# Altium integrated library Microchip Microcontroller 8-Bit PIC12.IntLib: 221 symbols (part 1 of 6)
Pins are listed as number, name and electrical type; pins without a type are passive.

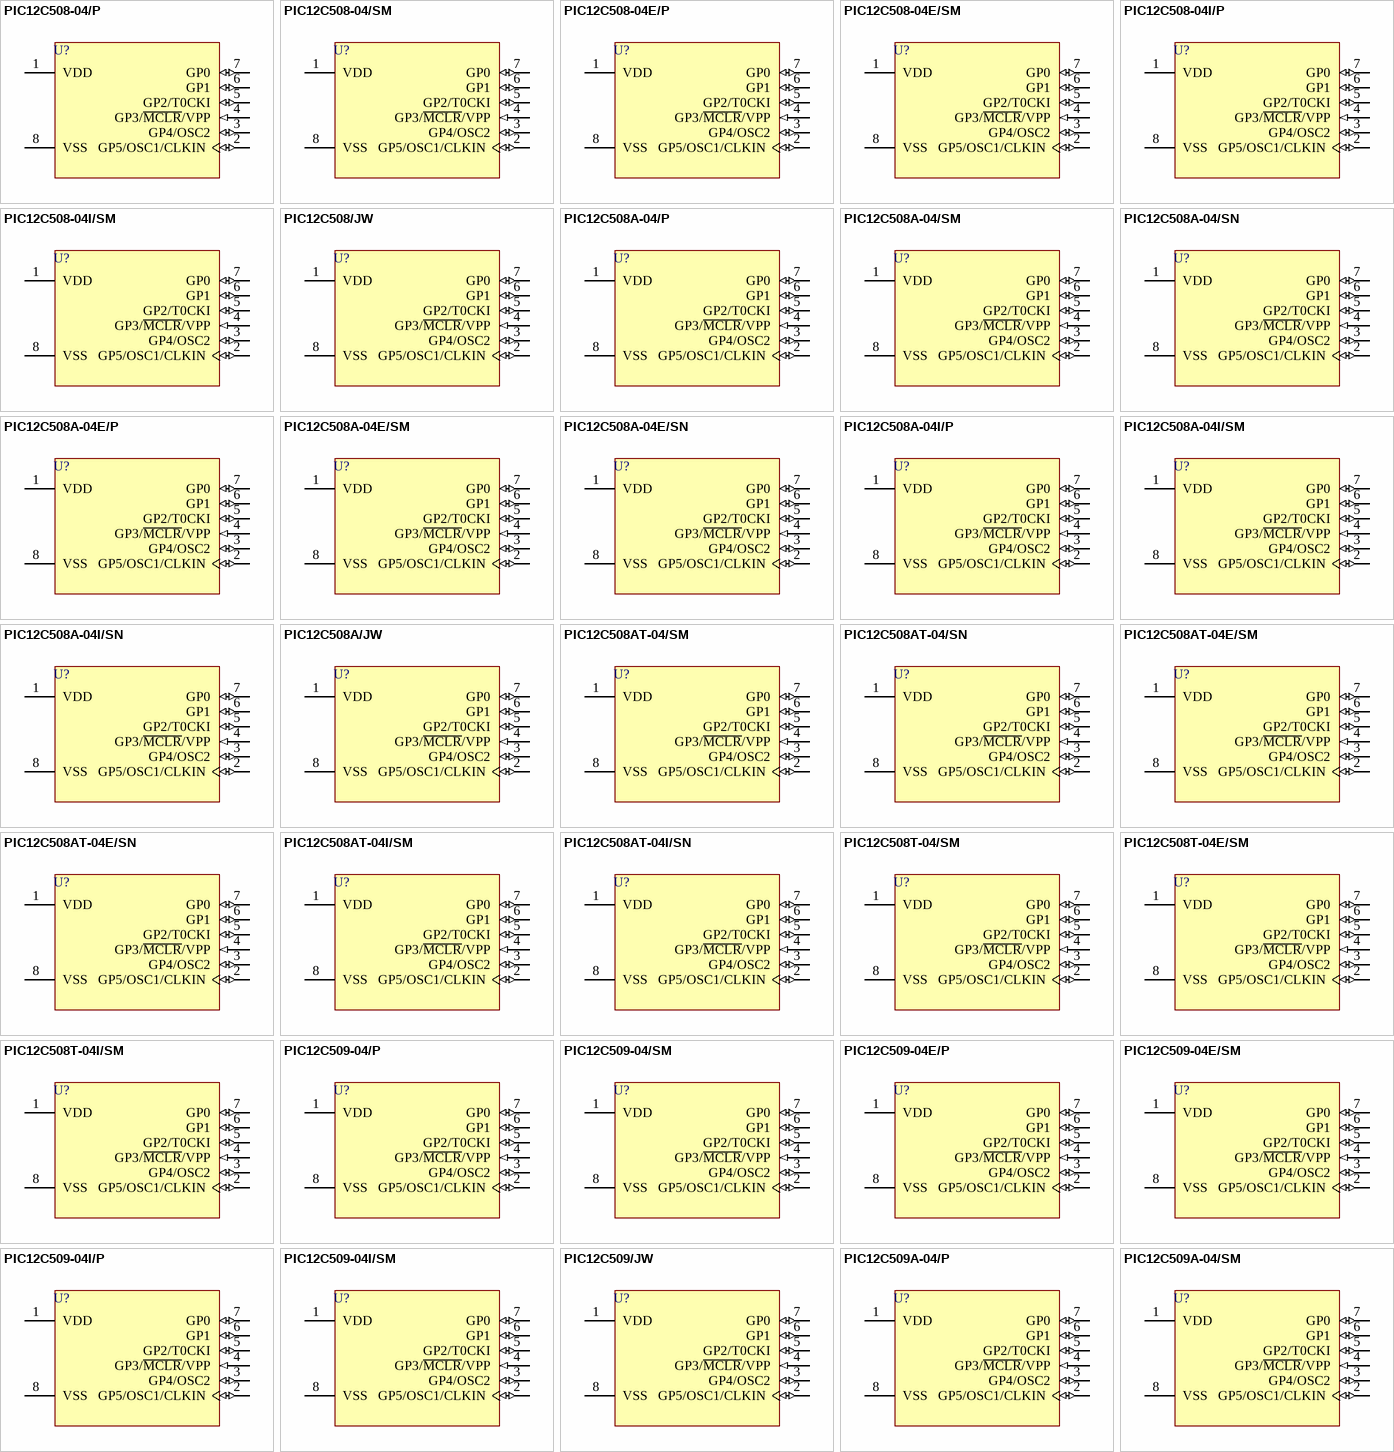
[diagram p0: symbols PIC12C508-04/P to PIC12C509A-04/SM]

## PIC12C508-04/P
designator U?
8-Bit CMOS Microcontroller, 8-Pin PDIP, 4 MHz, 2.5 to 5.5V Supply Range, Commercial Temperature; Note: If changing from PIC12C50X to either PIC12C50XA or PIC12CR50XA, verify oscillator characteristics in your application.; Note: Not recommended for new designs. Consider PIC12C508A instead.; Published: 11-Oct-2004; DatasheetVersion: DS40139E_1999; PackageVersion: Oct-2005; PackageReference: PDIP300-8; Publisher: Altium Limited; PackageDescription: DIP, Plastic; 8 Leads; Row Spacing 7.62 mm; Pitch 2.54 mm; Code_JEDEC: MS-001; ComponentLink1Description: Manufacturer Link; ComponentLink1URL: http://www.microchip.com; ComponentLink2Description: Datasheet; ComponentLink2URL: http://ww1.microchip.com/downloads/en/DeviceDoc/40139e.pdf; ComponentLink3Description: Packaging Specification; ComponentLink3URL: http://ww1.microchip.com/downloads/en/PackagingSpec/00049AD.pdf
footprint PDIP300-8 (DIP, Plastic; 8 Leads; Row Spacing 7.62 mm; Pitch 2.54 mm)
pins: 1 VDD (power), 2 GP5/OSC1/CLKIN (io), 3 GP4/OSC2 (io), 4 GP3/~{MCLR}/VPP (in), 5 GP2/T0CKI (io), 6 GP1 (io), 7 GP0 (io), 8 VSS (power)

## PIC12C508-04/SM
designator U?
8-Bit CMOS Microcontroller, 8-Pin SOIC 208mil, 4 MHz, 2.5 to 5.5V Supply Range, Commercial Temperature; Note: If changing from PIC12C50X to either PIC12C50XA or PIC12CR50XA, verify oscillator characteristics in your application.; Note: Not recommended for new designs. Consider PIC12C508A instead.; Published: 11-Oct-2004; LatestRevisionDate: 13-Apr-2006; LatestRevisionNote: IPC-7351 Footprint Added.; DatasheetVersion: DS40139E_1999; PackageVersion: 2003; PackageReference: SOIC208-8; Publisher: Altium Limited; PackageDescription: 8-Pin Plastic Medium Body Small Outline Package 1.27 mm Pitch; ComponentLink1Description: Manufacturer Link; ComponentLink1URL: http://www.microchip.com; ComponentLink2Description: Datasheet; ComponentLink2URL: http://ww1.microchip.com/downloads/en/DeviceDoc/40139e.pdf; ComponentLink3Description: Packaging Specification; ComponentLink3URL: http://ww1.microchip.com/downloads/en/PackagingSpec/00049AD.pdf
footprint SOIC208-8_N (SOP, 8-Leads, Body 5.2x5.2mm, Pitch 1.27mm, IPC Medium Density)
footprint SOIC208-8_L (SOP, 8-Leads, Body 5.2x5.2mm, Pitch 1.27mm, IPC High Density)
footprint SOIC208-8_M (SOP, 8-Leads, Body 5.2x5.2mm, Pitch 1.27mm, IPC Low Density)
3D model SOIC208-8 (8-Pin Plastic Medium Body Small Outline Package 1.27 mm Pitch)
pins: 1 VDD (power), 2 GP5/OSC1/CLKIN (io), 3 GP4/OSC2 (io), 4 GP3/~{MCLR}/VPP (in), 5 GP2/T0CKI (io), 6 GP1 (io), 7 GP0 (io), 8 VSS (power)

## PIC12C508-04E/P
designator U?
8-Bit CMOS Microcontroller, 8-Pin PDIP, 4 MHz, 2.5 to 5.5V Supply Range, Extended Temperature; Note: If changing from PIC12C50X to either PIC12C50XA or PIC12CR50XA, verify oscillator characteristics in your application.; Note: Not recommended for new designs. Consider PIC12C508A instead.; Published: 11-Oct-2004; DatasheetVersion: DS40139E_1999; PackageVersion: Oct-2005; PackageReference: PDIP300-8; Publisher: Altium Limited; PackageDescription: DIP, Plastic; 8 Leads; Row Spacing 7.62 mm; Pitch 2.54 mm; Code_JEDEC: MS-001; ComponentLink1Description: Manufacturer Link; ComponentLink1URL: http://www.microchip.com; ComponentLink2Description: Datasheet; ComponentLink2URL: http://ww1.microchip.com/downloads/en/DeviceDoc/40139e.pdf; ComponentLink3Description: Packaging Specification; ComponentLink3URL: http://ww1.microchip.com/downloads/en/PackagingSpec/00049AD.pdf
footprint PDIP300-8 (DIP, Plastic; 8 Leads; Row Spacing 7.62 mm; Pitch 2.54 mm)
pins: 1 VDD (power), 2 GP5/OSC1/CLKIN (io), 3 GP4/OSC2 (io), 4 GP3/~{MCLR}/VPP (in), 5 GP2/T0CKI (io), 6 GP1 (io), 7 GP0 (io), 8 VSS (power)

## PIC12C508-04E/SM
designator U?
8-Bit CMOS Microcontroller, 8-Pin SOIC 208mil, 4 MHz, 2.5 to 5.5V Supply Range, Extended Temperature; Note: If changing from PIC12C50X to either PIC12C50XA or PIC12CR50XA, verify oscillator characteristics in your application.; Note: Not recommended for new designs. Consider PIC12C508A instead.; Published: 11-Oct-2004; LatestRevisionDate: 13-Apr-2006; LatestRevisionNote: IPC-7351 Footprint Added.; DatasheetVersion: DS40139E_1999; PackageVersion: 2003; PackageReference: SOIC208-8; Publisher: Altium Limited; PackageDescription: 8-Pin Plastic Medium Body Small Outline Package 1.27 mm Pitch; ComponentLink1Description: Manufacturer Link; ComponentLink1URL: http://www.microchip.com; ComponentLink2Description: Datasheet; ComponentLink2URL: http://ww1.microchip.com/downloads/en/DeviceDoc/40139e.pdf; ComponentLink3Description: Packaging Specification; ComponentLink3URL: http://ww1.microchip.com/downloads/en/PackagingSpec/00049AD.pdf
footprint SOIC208-8_N (SOP, 8-Leads, Body 5.2x5.2mm, Pitch 1.27mm, IPC Medium Density)
footprint SOIC208-8_L (SOP, 8-Leads, Body 5.2x5.2mm, Pitch 1.27mm, IPC High Density)
footprint SOIC208-8_M (SOP, 8-Leads, Body 5.2x5.2mm, Pitch 1.27mm, IPC Low Density)
3D model SOIC208-8 (8-Pin Plastic Medium Body Small Outline Package 1.27 mm Pitch)
pins: 1 VDD (power), 2 GP5/OSC1/CLKIN (io), 3 GP4/OSC2 (io), 4 GP3/~{MCLR}/VPP (in), 5 GP2/T0CKI (io), 6 GP1 (io), 7 GP0 (io), 8 VSS (power)

## PIC12C508-04I/P
designator U?
8-Bit CMOS Microcontroller, 8-Pin PDIP, 4 MHz, 2.5 to 5.5V Supply Range, Industrial Temperature; Note: If changing from PIC12C50X to either PIC12C50XA or PIC12CR50XA, verify oscillator characteristics in your application.; Note: Not recommended for new designs. Consider PIC12C508A instead.; Published: 11-Oct-2004; DatasheetVersion: DS40139E_1999; PackageVersion: Oct-2005; PackageReference: PDIP300-8; Publisher: Altium Limited; PackageDescription: DIP, Plastic; 8 Leads; Row Spacing 7.62 mm; Pitch 2.54 mm; Code_JEDEC: MS-001; ComponentLink1Description: Manufacturer Link; ComponentLink1URL: http://www.microchip.com; ComponentLink2Description: Datasheet; ComponentLink2URL: http://ww1.microchip.com/downloads/en/DeviceDoc/40139e.pdf; ComponentLink3Description: Packaging Specification; ComponentLink3URL: http://ww1.microchip.com/downloads/en/PackagingSpec/00049AD.pdf
footprint PDIP300-8 (DIP, Plastic; 8 Leads; Row Spacing 7.62 mm; Pitch 2.54 mm)
pins: 1 VDD (power), 2 GP5/OSC1/CLKIN (io), 3 GP4/OSC2 (io), 4 GP3/~{MCLR}/VPP (in), 5 GP2/T0CKI (io), 6 GP1 (io), 7 GP0 (io), 8 VSS (power)

## PIC12C508-04I/SM
designator U?
8-Bit CMOS Microcontroller, 8-Pin SOIC 208mil, 4 MHz, 2.5 to 5.5V Supply Range, Industrial Temperature; Note: If changing from PIC12C50X to either PIC12C50XA or PIC12CR50XA, verify oscillator characteristics in your application.; Note: Not recommended for new designs. Consider PIC12C508A instead.; Published: 11-Oct-2004; LatestRevisionDate: 13-Apr-2006; LatestRevisionNote: IPC-7351 Footprint Added.; DatasheetVersion: DS40139E_1999; PackageVersion: 2003; PackageReference: SOIC208-8; Publisher: Altium Limited; PackageDescription: 8-Pin Plastic Medium Body Small Outline Package 1.27 mm Pitch; ComponentLink1Description: Manufacturer Link; ComponentLink1URL: http://www.microchip.com; ComponentLink2Description: Datasheet; ComponentLink2URL: http://ww1.microchip.com/downloads/en/DeviceDoc/40139e.pdf; ComponentLink3Description: Packaging Specification; ComponentLink3URL: http://ww1.microchip.com/downloads/en/PackagingSpec/00049AD.pdf
footprint SOIC208-8_N (SOP, 8-Leads, Body 5.2x5.2mm, Pitch 1.27mm, IPC Medium Density)
footprint SOIC208-8_L (SOP, 8-Leads, Body 5.2x5.2mm, Pitch 1.27mm, IPC High Density)
footprint SOIC208-8_M (SOP, 8-Leads, Body 5.2x5.2mm, Pitch 1.27mm, IPC Low Density)
3D model SOIC208-8 (8-Pin Plastic Medium Body Small Outline Package 1.27 mm Pitch)
pins: 1 VDD (power), 2 GP5/OSC1/CLKIN (io), 3 GP4/OSC2 (io), 4 GP3/~{MCLR}/VPP (in), 5 GP2/T0CKI (io), 6 GP1 (io), 7 GP0 (io), 8 VSS (power)

## PIC12C508/JW
designator U?
8-Bit CMOS Microcontroller, UV Erasable, 8-Pin Windowed CERDIP, 4 MHz, 2.5 to 5.5V Supply Range, Commercial Temperature; Note: JW Devices can be programmed to any device configuration.; Note: If changing from PIC12C50X to either PIC12C50XA or PIC12CR50XA, verify oscillator characteristics in your application.; Note: Not recommended for new designs. Consider PIC12C508A instead.; Published: 11-Oct-2004; LatestRevisionDate: 04-Mar-2005; LatestRevisionNote: Stylized 3D Model Added.; DatasheetVersion: DS40139E_1999; PackageVersion: 2003; PackageReference: SideBrazed-8; Publisher: Altium Limited; PackageDescription: DIP, Ceramic, Side-Brazed, Window; 8 Leads; Row Spacing 7.62 mm; Pitch 2.54 mm; Code_JEDEC: MS-015; ComponentLink1Description: Manufacturer Link; ComponentLink1URL: http://www.microchip.com; ComponentLink2Description: Datasheet; ComponentLink2URL: http://ww1.microchip.com/downloads/en/DeviceDoc/40139e.pdf; ComponentLink3Description: Packaging Specification; ComponentLink3URL: http://ww1.microchip.com/downloads/en/PackagingSpec/00049AD.pdf
footprint SideBrazed-8 (DIP, Ceramic, Side-Brazed, Window; 8 Leads; Row Spacing 7.62 mm; Pitch 2.54 mm)
3D model SideBrazed-8 (DIP, Ceramic, Side-Brazed, Window; 8 Leads; Row Spacing 7.62 mm; Pitch 2.54 mm)
pins: 1 VDD (power), 2 GP5/OSC1/CLKIN (io), 3 GP4/OSC2 (io), 4 GP3/~{MCLR}/VPP (in), 5 GP2/T0CKI (io), 6 GP1 (io), 7 GP0 (io), 8 VSS (power)

## PIC12C508A-04/P
designator U?
8-Bit CMOS Microcontroller, 8-Pin PDIP, 4 MHz, 3.0 to 5.5V Supply Range, Commercial Temperature; Note: If changing from PIC12C50X to either PIC12C50XA or PIC12CR50XA, verify oscillator characteristics in your application.; Published: 11-Oct-2004; DatasheetVersion: DS40139E_1999; PackageVersion: Oct-2005; PackageReference: PDIP300-8; Publisher: Altium Limited; PackageDescription: DIP, Plastic; 8 Leads; Row Spacing 7.62 mm; Pitch 2.54 mm; Code_JEDEC: MS-001; ComponentLink1Description: Manufacturer Link; ComponentLink1URL: http://www.microchip.com; ComponentLink2Description: Datasheet; ComponentLink2URL: http://ww1.microchip.com/downloads/en/DeviceDoc/40139e.pdf; ComponentLink3Description: Packaging Specification; ComponentLink3URL: http://ww1.microchip.com/downloads/en/PackagingSpec/00049AD.pdf
footprint PDIP300-8 (DIP, Plastic; 8 Leads; Row Spacing 7.62 mm; Pitch 2.54 mm)
pins: 1 VDD (power), 2 GP5/OSC1/CLKIN (io), 3 GP4/OSC2 (io), 4 GP3/~{MCLR}/VPP (in), 5 GP2/T0CKI (io), 6 GP1 (io), 7 GP0 (io), 8 VSS (power)

## PIC12C508A-04/SM
designator U?
8-Bit CMOS Microcontroller, 8-Pin SOIC 208mil, 4 MHz, 3.0 to 5.5V Supply Range, Commercial Temperature; Note: If changing from PIC12C50X to either PIC12C50XA or PIC12CR50XA, verify oscillator characteristics in your application.; Published: 11-Oct-2004; LatestRevisionDate: 13-Apr-2006; LatestRevisionNote: IPC-7351 Footprint Added.; DatasheetVersion: DS40139E_1999; PackageVersion: 2003; PackageReference: SOIC208-8; Publisher: Altium Limited; PackageDescription: 8-Pin Plastic Medium Body Small Outline Package 1.27 mm Pitch; ComponentLink1Description: Manufacturer Link; ComponentLink1URL: http://www.microchip.com; ComponentLink2Description: Datasheet; ComponentLink2URL: http://ww1.microchip.com/downloads/en/DeviceDoc/40139e.pdf; ComponentLink3Description: Packaging Specification; ComponentLink3URL: http://ww1.microchip.com/downloads/en/PackagingSpec/00049AD.pdf
footprint SOIC208-8_N (SOP, 8-Leads, Body 5.2x5.2mm, Pitch 1.27mm, IPC Medium Density)
footprint SOIC208-8_L (SOP, 8-Leads, Body 5.2x5.2mm, Pitch 1.27mm, IPC High Density)
footprint SOIC208-8_M (SOP, 8-Leads, Body 5.2x5.2mm, Pitch 1.27mm, IPC Low Density)
3D model SOIC208-8 (8-Pin Plastic Medium Body Small Outline Package 1.27 mm Pitch)
pins: 1 VDD (power), 2 GP5/OSC1/CLKIN (io), 3 GP4/OSC2 (io), 4 GP3/~{MCLR}/VPP (in), 5 GP2/T0CKI (io), 6 GP1 (io), 7 GP0 (io), 8 VSS (power)

## PIC12C508A-04/SN
designator U?
8-Bit CMOS Microcontroller, 8-Pin SOIC 150mil, 4 MHz, 3.0 to 5.5V Supply Range, Commercial Temperature; Note: If changing from PIC12C50X to either PIC12C50XA or PIC12CR50XA, verify oscillator characteristics in your application.; Published: 11-Oct-2004; LatestRevisionDate: 13-Apr-2006; LatestRevisionNote: IPC-7351 Footprint Added.; DatasheetVersion: DS40139E_1999; PackageVersion: Oct-2005; PackageReference: SOIC150-8; Publisher: Altium Limited; PackageDescription: 8-Pin Plastic Narrow Body Small Outline Integrated Circuit 1.27 mm Pitch; Code_JEDEC: MS-012; ComponentLink1Description: Manufacturer Link; ComponentLink1URL: http://www.microchip.com; ComponentLink2Description: Datasheet; ComponentLink2URL: http://ww1.microchip.com/downloads/en/DeviceDoc/40139e.pdf; ComponentLink3Description: Packaging Specification; ComponentLink3URL: http://ww1.microchip.com/downloads/en/PackagingSpec/00049AD.pdf
footprint SOIC150-8_N (SOIC, 8-Leads, Body 4.9x3.8mm, Pitch 1.27mm, IPC Medium Density)
footprint SOIC150-8_L (SOIC, 8-Leads, Body 4.9x3.8mm, Pitch 1.27mm, IPC High Density)
footprint SOIC150-8_M (SOIC, 8-Leads, Body 4.9x3.8mm, Pitch 1.27mm, IPC Low Density)
3D model SOIC150-8 (8-Pin Plastic Narrow Body Small Outline Integrated Circuit 1.27 mm Pitch)
pins: 1 VDD (power), 2 GP5/OSC1/CLKIN (io), 3 GP4/OSC2 (io), 4 GP3/~{MCLR}/VPP (in), 5 GP2/T0CKI (io), 6 GP1 (io), 7 GP0 (io), 8 VSS (power)

## PIC12C508A-04E/P
designator U?
8-Bit CMOS Microcontroller, 8-Pin PDIP, 4 MHz, 3.0 to 5.5V Supply Range, Extended Temperature; Note: If changing from PIC12C50X to either PIC12C50XA or PIC12CR50XA, verify oscillator characteristics in your application.; Published: 11-Oct-2004; DatasheetVersion: DS40139E_1999; PackageVersion: Oct-2005; PackageReference: PDIP300-8; Publisher: Altium Limited; PackageDescription: DIP, Plastic; 8 Leads; Row Spacing 7.62 mm; Pitch 2.54 mm; Code_JEDEC: MS-001; ComponentLink1Description: Manufacturer Link; ComponentLink1URL: http://www.microchip.com; ComponentLink2Description: Datasheet; ComponentLink2URL: http://ww1.microchip.com/downloads/en/DeviceDoc/40139e.pdf; ComponentLink3Description: Packaging Specification; ComponentLink3URL: http://ww1.microchip.com/downloads/en/PackagingSpec/00049AD.pdf
footprint PDIP300-8 (DIP, Plastic; 8 Leads; Row Spacing 7.62 mm; Pitch 2.54 mm)
pins: 1 VDD (power), 2 GP5/OSC1/CLKIN (io), 3 GP4/OSC2 (io), 4 GP3/~{MCLR}/VPP (in), 5 GP2/T0CKI (io), 6 GP1 (io), 7 GP0 (io), 8 VSS (power)

## PIC12C508A-04E/SM
designator U?
8-Bit CMOS Microcontroller, 8-Pin SOIC 208mil, 4 MHz, 3.0 to 5.5V Supply Range, Extended Temperature; Note: If changing from PIC12C50X to either PIC12C50XA or PIC12CR50XA, verify oscillator characteristics in your application.; Published: 11-Oct-2004; LatestRevisionDate: 13-Apr-2006; LatestRevisionNote: IPC-7351 Footprint Added.; DatasheetVersion: DS40139E_1999; PackageVersion: 2003; PackageReference: SOIC208-8; Publisher: Altium Limited; PackageDescription: 8-Pin Plastic Medium Body Small Outline Package 1.27 mm Pitch; ComponentLink1Description: Manufacturer Link; ComponentLink1URL: http://www.microchip.com; ComponentLink2Description: Datasheet; ComponentLink2URL: http://ww1.microchip.com/downloads/en/DeviceDoc/40139e.pdf; ComponentLink3Description: Packaging Specification; ComponentLink3URL: http://ww1.microchip.com/downloads/en/PackagingSpec/00049AD.pdf
footprint SOIC208-8_N (SOP, 8-Leads, Body 5.2x5.2mm, Pitch 1.27mm, IPC Medium Density)
footprint SOIC208-8_L (SOP, 8-Leads, Body 5.2x5.2mm, Pitch 1.27mm, IPC High Density)
footprint SOIC208-8_M (SOP, 8-Leads, Body 5.2x5.2mm, Pitch 1.27mm, IPC Low Density)
3D model SOIC208-8 (8-Pin Plastic Medium Body Small Outline Package 1.27 mm Pitch)
pins: 1 VDD (power), 2 GP5/OSC1/CLKIN (io), 3 GP4/OSC2 (io), 4 GP3/~{MCLR}/VPP (in), 5 GP2/T0CKI (io), 6 GP1 (io), 7 GP0 (io), 8 VSS (power)

## PIC12C508A-04E/SN
designator U?
8-Bit CMOS Microcontroller, 8-Pin SOIC 150mil, 4 MHz, 3.0 to 5.5V Supply Range, Extended Temperature; Note: If changing from PIC12C50X to either PIC12C50XA or PIC12CR50XA, verify oscillator characteristics in your application.; Published: 11-Oct-2004; LatestRevisionDate: 13-Apr-2006; LatestRevisionNote: IPC-7351 Footprint Added.; DatasheetVersion: DS40139E_1999; PackageVersion: Oct-2005; PackageReference: SOIC150-8; Publisher: Altium Limited; PackageDescription: 8-Pin Plastic Narrow Body Small Outline Integrated Circuit 1.27 mm Pitch; Code_JEDEC: MS-012; ComponentLink1Description: Manufacturer Link; ComponentLink1URL: http://www.microchip.com; ComponentLink2Description: Datasheet; ComponentLink2URL: http://ww1.microchip.com/downloads/en/DeviceDoc/40139e.pdf; ComponentLink3Description: Packaging Specification; ComponentLink3URL: http://ww1.microchip.com/downloads/en/PackagingSpec/00049AD.pdf
footprint SOIC150-8_N (SOIC, 8-Leads, Body 4.9x3.8mm, Pitch 1.27mm, IPC Medium Density)
footprint SOIC150-8_L (SOIC, 8-Leads, Body 4.9x3.8mm, Pitch 1.27mm, IPC High Density)
footprint SOIC150-8_M (SOIC, 8-Leads, Body 4.9x3.8mm, Pitch 1.27mm, IPC Low Density)
3D model SOIC150-8 (8-Pin Plastic Narrow Body Small Outline Integrated Circuit 1.27 mm Pitch)
pins: 1 VDD (power), 2 GP5/OSC1/CLKIN (io), 3 GP4/OSC2 (io), 4 GP3/~{MCLR}/VPP (in), 5 GP2/T0CKI (io), 6 GP1 (io), 7 GP0 (io), 8 VSS (power)

## PIC12C508A-04I/P
designator U?
8-Bit CMOS Microcontroller, 8-Pin PDIP, 4 MHz, 3.0 to 5.5V Supply Range, Industrial Temperature; Note: If changing from PIC12C50X to either PIC12C50XA or PIC12CR50XA, verify oscillator characteristics in your application.; Published: 11-Oct-2004; DatasheetVersion: DS40139E_1999; PackageVersion: Oct-2005; PackageReference: PDIP300-8; Publisher: Altium Limited; PackageDescription: DIP, Plastic; 8 Leads; Row Spacing 7.62 mm; Pitch 2.54 mm; Code_JEDEC: MS-001; ComponentLink1Description: Manufacturer Link; ComponentLink1URL: http://www.microchip.com; ComponentLink2Description: Datasheet; ComponentLink2URL: http://ww1.microchip.com/downloads/en/DeviceDoc/40139e.pdf; ComponentLink3Description: Packaging Specification; ComponentLink3URL: http://ww1.microchip.com/downloads/en/PackagingSpec/00049AD.pdf
footprint PDIP300-8 (DIP, Plastic; 8 Leads; Row Spacing 7.62 mm; Pitch 2.54 mm)
pins: 1 VDD (power), 2 GP5/OSC1/CLKIN (io), 3 GP4/OSC2 (io), 4 GP3/~{MCLR}/VPP (in), 5 GP2/T0CKI (io), 6 GP1 (io), 7 GP0 (io), 8 VSS (power)

## PIC12C508A-04I/SM
designator U?
8-Bit CMOS Microcontroller, 8-Pin SOIC 208mil, 4 MHz, 3.0 to 5.5V Supply Range, Industrial Temperature; Note: If changing from PIC12C50X to either PIC12C50XA or PIC12CR50XA, verify oscillator characteristics in your application.; Published: 11-Oct-2004; LatestRevisionDate: 13-Apr-2006; LatestRevisionNote: IPC-7351 Footprint Added.; DatasheetVersion: DS40139E_1999; PackageVersion: 2003; PackageReference: SOIC208-8; Publisher: Altium Limited; PackageDescription: 8-Pin Plastic Medium Body Small Outline Package 1.27 mm Pitch; ComponentLink1Description: Manufacturer Link; ComponentLink1URL: http://www.microchip.com; ComponentLink2Description: Datasheet; ComponentLink2URL: http://ww1.microchip.com/downloads/en/DeviceDoc/40139e.pdf; ComponentLink3Description: Packaging Specification; ComponentLink3URL: http://ww1.microchip.com/downloads/en/PackagingSpec/00049AD.pdf
footprint SOIC208-8_N (SOP, 8-Leads, Body 5.2x5.2mm, Pitch 1.27mm, IPC Medium Density)
footprint SOIC208-8_L (SOP, 8-Leads, Body 5.2x5.2mm, Pitch 1.27mm, IPC High Density)
footprint SOIC208-8_M (SOP, 8-Leads, Body 5.2x5.2mm, Pitch 1.27mm, IPC Low Density)
3D model SOIC208-8 (8-Pin Plastic Medium Body Small Outline Package 1.27 mm Pitch)
pins: 1 VDD (power), 2 GP5/OSC1/CLKIN (io), 3 GP4/OSC2 (io), 4 GP3/~{MCLR}/VPP (in), 5 GP2/T0CKI (io), 6 GP1 (io), 7 GP0 (io), 8 VSS (power)

## PIC12C508A-04I/SN
designator U?
8-Bit CMOS Microcontroller, 8-Pin SOIC 150mil, 4 MHz, 3.0 to 5.5V Supply Range, Industrial Temperature; Note: If changing from PIC12C50X to either PIC12C50XA or PIC12CR50XA, verify oscillator characteristics in your application.; Published: 11-Oct-2004; LatestRevisionDate: 13-Apr-2006; LatestRevisionNote: IPC-7351 Footprint Added.; DatasheetVersion: DS40139E_1999; PackageVersion: Oct-2005; PackageReference: SOIC150-8; Publisher: Altium Limited; PackageDescription: 8-Pin Plastic Narrow Body Small Outline Integrated Circuit 1.27 mm Pitch; Code_JEDEC: MS-012; ComponentLink1Description: Manufacturer Link; ComponentLink1URL: http://www.microchip.com; ComponentLink2Description: Datasheet; ComponentLink2URL: http://ww1.microchip.com/downloads/en/DeviceDoc/40139e.pdf; ComponentLink3Description: Packaging Specification; ComponentLink3URL: http://ww1.microchip.com/downloads/en/PackagingSpec/00049AD.pdf
footprint SOIC150-8_N (SOIC, 8-Leads, Body 4.9x3.8mm, Pitch 1.27mm, IPC Medium Density)
footprint SOIC150-8_L (SOIC, 8-Leads, Body 4.9x3.8mm, Pitch 1.27mm, IPC High Density)
footprint SOIC150-8_M (SOIC, 8-Leads, Body 4.9x3.8mm, Pitch 1.27mm, IPC Low Density)
3D model SOIC150-8 (8-Pin Plastic Narrow Body Small Outline Integrated Circuit 1.27 mm Pitch)
pins: 1 VDD (power), 2 GP5/OSC1/CLKIN (io), 3 GP4/OSC2 (io), 4 GP3/~{MCLR}/VPP (in), 5 GP2/T0CKI (io), 6 GP1 (io), 7 GP0 (io), 8 VSS (power)

## PIC12C508A/JW
designator U?
8-Bit CMOS Microcontroller, UV Erasable, 8-Pin Windowed CERDIP, 4 MHz, 3.0 to 5.5V Supply Range, Commercial Temperature; Note: JW Devices can be programmed to any device configuration.; Note: If changing from PIC12C50X to either PIC12C50XA or PIC12CR50XA, verify oscillator characteristics in your application.; Published: 11-Oct-2004; LatestRevisionDate: 04-Mar-2005; LatestRevisionNote: Stylized 3D Model Added.; DatasheetVersion: DS40139E_1999; PackageVersion: 2003; PackageReference: SideBrazed-8; Publisher: Altium Limited; PackageDescription: DIP, Ceramic, Side-Brazed, Window; 8 Leads; Row Spacing 7.62 mm; Pitch 2.54 mm; Code_JEDEC: MS-015; ComponentLink1Description: Manufacturer Link; ComponentLink1URL: http://www.microchip.com; ComponentLink2Description: Datasheet; ComponentLink2URL: http://ww1.microchip.com/downloads/en/DeviceDoc/40139e.pdf; ComponentLink3Description: Packaging Specification; ComponentLink3URL: http://ww1.microchip.com/downloads/en/PackagingSpec/00049AD.pdf
footprint SideBrazed-8 (DIP, Ceramic, Side-Brazed, Window; 8 Leads; Row Spacing 7.62 mm; Pitch 2.54 mm)
3D model SideBrazed-8 (DIP, Ceramic, Side-Brazed, Window; 8 Leads; Row Spacing 7.62 mm; Pitch 2.54 mm)
pins: 1 VDD (power), 2 GP5/OSC1/CLKIN (io), 3 GP4/OSC2 (io), 4 GP3/~{MCLR}/VPP (in), 5 GP2/T0CKI (io), 6 GP1 (io), 7 GP0 (io), 8 VSS (power)

## PIC12C508AT-04/SM
designator U?
8-Bit CMOS Microcontroller, 8-Pin SOIC 208mil, 4 MHz, 3.0 to 5.5V Supply Range, Commercial Temperature, Tape and Reel; Note: If changing from PIC12C50X to either PIC12C50XA or PIC12CR50XA, verify oscillator characteristics in your application.; Published: 11-Oct-2004; LatestRevisionDate: 13-Apr-2006; LatestRevisionNote: IPC-7351 Footprint Added.; DatasheetVersion: DS40139E_1999; PackageVersion: 2003; PackageReference: SOIC208-8; Publisher: Altium Limited; PackageDescription: 8-Pin Plastic Medium Body Small Outline Package 1.27 mm Pitch; ComponentLink1Description: Manufacturer Link; ComponentLink1URL: http://www.microchip.com; ComponentLink2Description: Datasheet; ComponentLink2URL: http://ww1.microchip.com/downloads/en/DeviceDoc/40139e.pdf; ComponentLink3Description: Packaging Specification; ComponentLink3URL: http://ww1.microchip.com/downloads/en/PackagingSpec/00049AD.pdf
footprint SOIC208-8_N (SOP, 8-Leads, Body 5.2x5.2mm, Pitch 1.27mm, IPC Medium Density)
footprint SOIC208-8_L (SOP, 8-Leads, Body 5.2x5.2mm, Pitch 1.27mm, IPC High Density)
footprint SOIC208-8_M (SOP, 8-Leads, Body 5.2x5.2mm, Pitch 1.27mm, IPC Low Density)
3D model SOIC208-8 (8-Pin Plastic Medium Body Small Outline Package 1.27 mm Pitch)
pins: 1 VDD (power), 2 GP5/OSC1/CLKIN (io), 3 GP4/OSC2 (io), 4 GP3/~{MCLR}/VPP (in), 5 GP2/T0CKI (io), 6 GP1 (io), 7 GP0 (io), 8 VSS (power)

## PIC12C508AT-04/SN
designator U?
8-Bit CMOS Microcontroller, 8-Pin SOIC 150mil, 4 MHz, 3.0 to 5.5V Supply Range, Commercial Temperature, Tape and Reel; Note: If changing from PIC12C50X to either PIC12C50XA or PIC12CR50XA, verify oscillator characteristics in your application.; Published: 11-Oct-2004; LatestRevisionDate: 13-Apr-2006; LatestRevisionNote: IPC-7351 Footprint Added.; DatasheetVersion: DS40139E_1999; PackageVersion: Oct-2005; PackageReference: SOIC150-8; Publisher: Altium Limited; PackageDescription: 8-Pin Plastic Narrow Body Small Outline Integrated Circuit 1.27 mm Pitch; Code_JEDEC: MS-012; ComponentLink1Description: Manufacturer Link; ComponentLink1URL: http://www.microchip.com; ComponentLink2Description: Datasheet; ComponentLink2URL: http://ww1.microchip.com/downloads/en/DeviceDoc/40139e.pdf; ComponentLink3Description: Packaging Specification; ComponentLink3URL: http://ww1.microchip.com/downloads/en/PackagingSpec/00049AD.pdf
footprint SOIC150-8_N (SOIC, 8-Leads, Body 4.9x3.8mm, Pitch 1.27mm, IPC Medium Density)
footprint SOIC150-8_L (SOIC, 8-Leads, Body 4.9x3.8mm, Pitch 1.27mm, IPC High Density)
footprint SOIC150-8_M (SOIC, 8-Leads, Body 4.9x3.8mm, Pitch 1.27mm, IPC Low Density)
3D model SOIC150-8 (8-Pin Plastic Narrow Body Small Outline Integrated Circuit 1.27 mm Pitch)
pins: 1 VDD (power), 2 GP5/OSC1/CLKIN (io), 3 GP4/OSC2 (io), 4 GP3/~{MCLR}/VPP (in), 5 GP2/T0CKI (io), 6 GP1 (io), 7 GP0 (io), 8 VSS (power)

## PIC12C508AT-04E/SM
designator U?
8-Bit CMOS Microcontroller, 8-Pin SOIC 208mil, 4 MHz, 3.0 to 5.5V Supply Range, Extended Temperature, Tape and Reel; Note: If changing from PIC12C50X to either PIC12C50XA or PIC12CR50XA, verify oscillator characteristics in your application.; Published: 11-Oct-2004; LatestRevisionDate: 13-Apr-2006; LatestRevisionNote: IPC-7351 Footprint Added.; DatasheetVersion: DS40139E_1999; PackageVersion: 2003; PackageReference: SOIC208-8; Publisher: Altium Limited; PackageDescription: 8-Pin Plastic Medium Body Small Outline Package 1.27 mm Pitch; ComponentLink1Description: Manufacturer Link; ComponentLink1URL: http://www.microchip.com; ComponentLink2Description: Datasheet; ComponentLink2URL: http://ww1.microchip.com/downloads/en/DeviceDoc/40139e.pdf; ComponentLink3Description: Packaging Specification; ComponentLink3URL: http://ww1.microchip.com/downloads/en/PackagingSpec/00049AD.pdf
footprint SOIC208-8_N (SOP, 8-Leads, Body 5.2x5.2mm, Pitch 1.27mm, IPC Medium Density)
footprint SOIC208-8_L (SOP, 8-Leads, Body 5.2x5.2mm, Pitch 1.27mm, IPC High Density)
footprint SOIC208-8_M (SOP, 8-Leads, Body 5.2x5.2mm, Pitch 1.27mm, IPC Low Density)
3D model SOIC208-8 (8-Pin Plastic Medium Body Small Outline Package 1.27 mm Pitch)
pins: 1 VDD (power), 2 GP5/OSC1/CLKIN (io), 3 GP4/OSC2 (io), 4 GP3/~{MCLR}/VPP (in), 5 GP2/T0CKI (io), 6 GP1 (io), 7 GP0 (io), 8 VSS (power)

## PIC12C508AT-04E/SN
designator U?
8-Bit CMOS Microcontroller, 8-Pin SOIC 150mil, 4 MHz, 3.0 to 5.5V Supply Range, Extended Temperature, Tape and Reel; Note: If changing from PIC12C50X to either PIC12C50XA or PIC12CR50XA, verify oscillator characteristics in your application.; Published: 11-Oct-2004; LatestRevisionDate: 13-Apr-2006; LatestRevisionNote: IPC-7351 Footprint Added.; DatasheetVersion: DS40139E_1999; PackageVersion: Oct-2005; PackageReference: SOIC150-8; Publisher: Altium Limited; PackageDescription: 8-Pin Plastic Narrow Body Small Outline Integrated Circuit 1.27 mm Pitch; Code_JEDEC: MS-012; ComponentLink1Description: Manufacturer Link; ComponentLink1URL: http://www.microchip.com; ComponentLink2Description: Datasheet; ComponentLink2URL: http://ww1.microchip.com/downloads/en/DeviceDoc/40139e.pdf; ComponentLink3Description: Packaging Specification; ComponentLink3URL: http://ww1.microchip.com/downloads/en/PackagingSpec/00049AD.pdf
footprint SOIC150-8_N (SOIC, 8-Leads, Body 4.9x3.8mm, Pitch 1.27mm, IPC Medium Density)
footprint SOIC150-8_L (SOIC, 8-Leads, Body 4.9x3.8mm, Pitch 1.27mm, IPC High Density)
footprint SOIC150-8_M (SOIC, 8-Leads, Body 4.9x3.8mm, Pitch 1.27mm, IPC Low Density)
3D model SOIC150-8 (8-Pin Plastic Narrow Body Small Outline Integrated Circuit 1.27 mm Pitch)
pins: 1 VDD (power), 2 GP5/OSC1/CLKIN (io), 3 GP4/OSC2 (io), 4 GP3/~{MCLR}/VPP (in), 5 GP2/T0CKI (io), 6 GP1 (io), 7 GP0 (io), 8 VSS (power)

## PIC12C508AT-04I/SM
designator U?
8-Bit CMOS Microcontroller, 8-Pin SOIC 208mil, 4 MHz, 3.0 to 5.5V Supply Range, Industrial Temperature, Tape and Reel; Note: If changing from PIC12C50X to either PIC12C50XA or PIC12CR50XA, verify oscillator characteristics in your application.; Published: 11-Oct-2004; LatestRevisionDate: 13-Apr-2006; LatestRevisionNote: IPC-7351 Footprint Added.; DatasheetVersion: DS40139E_1999; PackageVersion: 2003; PackageReference: SOIC208-8; Publisher: Altium Limited; PackageDescription: 8-Pin Plastic Medium Body Small Outline Package 1.27 mm Pitch; ComponentLink1Description: Manufacturer Link; ComponentLink1URL: http://www.microchip.com; ComponentLink2Description: Datasheet; ComponentLink2URL: http://ww1.microchip.com/downloads/en/DeviceDoc/40139e.pdf; ComponentLink3Description: Packaging Specification; ComponentLink3URL: http://ww1.microchip.com/downloads/en/PackagingSpec/00049AD.pdf
footprint SOIC208-8_N (SOP, 8-Leads, Body 5.2x5.2mm, Pitch 1.27mm, IPC Medium Density)
footprint SOIC208-8_L (SOP, 8-Leads, Body 5.2x5.2mm, Pitch 1.27mm, IPC High Density)
footprint SOIC208-8_M (SOP, 8-Leads, Body 5.2x5.2mm, Pitch 1.27mm, IPC Low Density)
3D model SOIC208-8 (8-Pin Plastic Medium Body Small Outline Package 1.27 mm Pitch)
pins: 1 VDD (power), 2 GP5/OSC1/CLKIN (io), 3 GP4/OSC2 (io), 4 GP3/~{MCLR}/VPP (in), 5 GP2/T0CKI (io), 6 GP1 (io), 7 GP0 (io), 8 VSS (power)

## PIC12C508AT-04I/SN
designator U?
8-Bit CMOS Microcontroller, 8-Pin SOIC 150mil, 4 MHz, 3.0 to 5.5V Supply Range, Industrial Temperature, Tape and Reel; Note: If changing from PIC12C50X to either PIC12C50XA or PIC12CR50XA, verify oscillator characteristics in your application.; Published: 11-Oct-2004; LatestRevisionDate: 13-Apr-2006; LatestRevisionNote: IPC-7351 Footprint Added.; DatasheetVersion: DS40139E_1999; PackageVersion: Oct-2005; PackageReference: SOIC150-8; Publisher: Altium Limited; PackageDescription: 8-Pin Plastic Narrow Body Small Outline Integrated Circuit 1.27 mm Pitch; Code_JEDEC: MS-012; ComponentLink1Description: Manufacturer Link; ComponentLink1URL: http://www.microchip.com; ComponentLink2Description: Datasheet; ComponentLink2URL: http://ww1.microchip.com/downloads/en/DeviceDoc/40139e.pdf; ComponentLink3Description: Packaging Specification; ComponentLink3URL: http://ww1.microchip.com/downloads/en/PackagingSpec/00049AD.pdf
footprint SOIC150-8_N (SOIC, 8-Leads, Body 4.9x3.8mm, Pitch 1.27mm, IPC Medium Density)
footprint SOIC150-8_L (SOIC, 8-Leads, Body 4.9x3.8mm, Pitch 1.27mm, IPC High Density)
footprint SOIC150-8_M (SOIC, 8-Leads, Body 4.9x3.8mm, Pitch 1.27mm, IPC Low Density)
3D model SOIC150-8 (8-Pin Plastic Narrow Body Small Outline Integrated Circuit 1.27 mm Pitch)
pins: 1 VDD (power), 2 GP5/OSC1/CLKIN (io), 3 GP4/OSC2 (io), 4 GP3/~{MCLR}/VPP (in), 5 GP2/T0CKI (io), 6 GP1 (io), 7 GP0 (io), 8 VSS (power)

## PIC12C508T-04/SM
designator U?
8-Bit CMOS Microcontroller, 8-Pin SOIC 208mil, 4 MHz, 2.5 to 5.5V Supply Range, Commercial Temperature, Tape and Reel; Note: If changing from PIC12C50X to either PIC12C50XA or PIC12CR50XA, verify oscillator characteristics in your application.; Note: Not recommended for new designs. Consider PIC12C508A instead.; Published: 11-Oct-2004; LatestRevisionDate: 13-Apr-2006; LatestRevisionNote: IPC-7351 Footprint Added.; DatasheetVersion: DS40139E_1999; PackageVersion: 2003; PackageReference: SOIC208-8; Publisher: Altium Limited; PackageDescription: 8-Pin Plastic Medium Body Small Outline Package 1.27 mm Pitch; ComponentLink1Description: Manufacturer Link; ComponentLink1URL: http://www.microchip.com; ComponentLink2Description: Datasheet; ComponentLink2URL: http://ww1.microchip.com/downloads/en/DeviceDoc/40139e.pdf; ComponentLink3Description: Packaging Specification; ComponentLink3URL: http://ww1.microchip.com/downloads/en/PackagingSpec/00049AD.pdf
footprint SOIC208-8_N (SOP, 8-Leads, Body 5.2x5.2mm, Pitch 1.27mm, IPC Medium Density)
footprint SOIC208-8_L (SOP, 8-Leads, Body 5.2x5.2mm, Pitch 1.27mm, IPC High Density)
footprint SOIC208-8_M (SOP, 8-Leads, Body 5.2x5.2mm, Pitch 1.27mm, IPC Low Density)
3D model SOIC208-8 (8-Pin Plastic Medium Body Small Outline Package 1.27 mm Pitch)
pins: 1 VDD (power), 2 GP5/OSC1/CLKIN (io), 3 GP4/OSC2 (io), 4 GP3/~{MCLR}/VPP (in), 5 GP2/T0CKI (io), 6 GP1 (io), 7 GP0 (io), 8 VSS (power)

## PIC12C508T-04E/SM
designator U?
8-Bit CMOS Microcontroller, 8-Pin SOIC 208mil, 4 MHz, 2.5 to 5.5V Supply Range, Extended Temperature, Tape and Reel; Note: If changing from PIC12C50X to either PIC12C50XA or PIC12CR50XA, verify oscillator characteristics in your application.; Note: Not recommended for new designs. Consider PIC12C508A instead.; Published: 11-Oct-2004; LatestRevisionDate: 13-Apr-2006; LatestRevisionNote: IPC-7351 Footprint Added.; DatasheetVersion: DS40139E_1999; PackageVersion: 2003; PackageReference: SOIC208-8; Publisher: Altium Limited; PackageDescription: 8-Pin Plastic Medium Body Small Outline Package 1.27 mm Pitch; ComponentLink1Description: Manufacturer Link; ComponentLink1URL: http://www.microchip.com; ComponentLink2Description: Datasheet; ComponentLink2URL: http://ww1.microchip.com/downloads/en/DeviceDoc/40139e.pdf; ComponentLink3Description: Packaging Specification; ComponentLink3URL: http://ww1.microchip.com/downloads/en/PackagingSpec/00049AD.pdf
footprint SOIC208-8_N (SOP, 8-Leads, Body 5.2x5.2mm, Pitch 1.27mm, IPC Medium Density)
footprint SOIC208-8_L (SOP, 8-Leads, Body 5.2x5.2mm, Pitch 1.27mm, IPC High Density)
footprint SOIC208-8_M (SOP, 8-Leads, Body 5.2x5.2mm, Pitch 1.27mm, IPC Low Density)
3D model SOIC208-8 (8-Pin Plastic Medium Body Small Outline Package 1.27 mm Pitch)
pins: 1 VDD (power), 2 GP5/OSC1/CLKIN (io), 3 GP4/OSC2 (io), 4 GP3/~{MCLR}/VPP (in), 5 GP2/T0CKI (io), 6 GP1 (io), 7 GP0 (io), 8 VSS (power)

## PIC12C508T-04I/SM
designator U?
8-Bit CMOS Microcontroller, 8-Pin SOIC 208mil, 4 MHz, 2.5 to 5.5V Supply Range, Industrial Temperature, Tape and Reel; Note: If changing from PIC12C50X to either PIC12C50XA or PIC12CR50XA, verify oscillator characteristics in your application.; Note: Not recommended for new designs. Consider PIC12C508A instead.; Published: 11-Oct-2004; LatestRevisionDate: 13-Apr-2006; LatestRevisionNote: IPC-7351 Footprint Added.; DatasheetVersion: DS40139E_1999; PackageVersion: 2003; PackageReference: SOIC208-8; Publisher: Altium Limited; PackageDescription: 8-Pin Plastic Medium Body Small Outline Package 1.27 mm Pitch; ComponentLink1Description: Manufacturer Link; ComponentLink1URL: http://www.microchip.com; ComponentLink2Description: Datasheet; ComponentLink2URL: http://ww1.microchip.com/downloads/en/DeviceDoc/40139e.pdf; ComponentLink3Description: Packaging Specification; ComponentLink3URL: http://ww1.microchip.com/downloads/en/PackagingSpec/00049AD.pdf
footprint SOIC208-8_N (SOP, 8-Leads, Body 5.2x5.2mm, Pitch 1.27mm, IPC Medium Density)
footprint SOIC208-8_L (SOP, 8-Leads, Body 5.2x5.2mm, Pitch 1.27mm, IPC High Density)
footprint SOIC208-8_M (SOP, 8-Leads, Body 5.2x5.2mm, Pitch 1.27mm, IPC Low Density)
3D model SOIC208-8 (8-Pin Plastic Medium Body Small Outline Package 1.27 mm Pitch)
pins: 1 VDD (power), 2 GP5/OSC1/CLKIN (io), 3 GP4/OSC2 (io), 4 GP3/~{MCLR}/VPP (in), 5 GP2/T0CKI (io), 6 GP1 (io), 7 GP0 (io), 8 VSS (power)

## PIC12C509-04/P
designator U?
8-Bit CMOS Microcontroller, 8-Pin PDIP, 4 MHz, 2.5 to 5.5V Supply Range, Commercial Temperature; Note: If changing from PIC12C50X to either PIC12C50XA or PIC12CR50XA, verify oscillator characteristics in your application.; Note: Not recommended for new designs. Consider PIC12C509A instead.; Published: 11-Oct-2004; DatasheetVersion: DS40139E_1999; PackageVersion: Oct-2005; PackageReference: PDIP300-8; Publisher: Altium Limited; PackageDescription: DIP, Plastic; 8 Leads; Row Spacing 7.62 mm; Pitch 2.54 mm; Code_JEDEC: MS-001; ComponentLink1Description: Manufacturer Link; ComponentLink1URL: http://www.microchip.com; ComponentLink2Description: Datasheet; ComponentLink2URL: http://ww1.microchip.com/downloads/en/DeviceDoc/40139e.pdf; ComponentLink3Description: Packaging Specification; ComponentLink3URL: http://ww1.microchip.com/downloads/en/PackagingSpec/00049AD.pdf
footprint PDIP300-8 (DIP, Plastic; 8 Leads; Row Spacing 7.62 mm; Pitch 2.54 mm)
pins: 1 VDD (power), 2 GP5/OSC1/CLKIN (io), 3 GP4/OSC2 (io), 4 GP3/~{MCLR}/VPP (in), 5 GP2/T0CKI (io), 6 GP1 (io), 7 GP0 (io), 8 VSS (power)

## PIC12C509-04/SM
designator U?
8-Bit CMOS Microcontroller, 8-Pin SOIC 208mil, 4 MHz, 2.5 to 5.5V Supply Range, Commercial Temperature; Note: If changing from PIC12C50X to either PIC12C50XA or PIC12CR50XA, verify oscillator characteristics in your application.; Note: Not recommended for new designs. Consider PIC12C509A instead.; Published: 11-Oct-2004; LatestRevisionDate: 13-Apr-2006; LatestRevisionNote: IPC-7351 Footprint Added.; DatasheetVersion: DS40139E_1999; PackageVersion: 2003; PackageReference: SOIC208-8; Publisher: Altium Limited; PackageDescription: 8-Pin Plastic Medium Body Small Outline Package 1.27 mm Pitch; ComponentLink1Description: Manufacturer Link; ComponentLink1URL: http://www.microchip.com; ComponentLink2Description: Datasheet; ComponentLink2URL: http://ww1.microchip.com/downloads/en/DeviceDoc/40139e.pdf; ComponentLink3Description: Packaging Specification; ComponentLink3URL: http://ww1.microchip.com/downloads/en/PackagingSpec/00049AD.pdf
footprint SOIC208-8_N (SOP, 8-Leads, Body 5.2x5.2mm, Pitch 1.27mm, IPC Medium Density)
footprint SOIC208-8_L (SOP, 8-Leads, Body 5.2x5.2mm, Pitch 1.27mm, IPC High Density)
footprint SOIC208-8_M (SOP, 8-Leads, Body 5.2x5.2mm, Pitch 1.27mm, IPC Low Density)
3D model SOIC208-8 (8-Pin Plastic Medium Body Small Outline Package 1.27 mm Pitch)
pins: 1 VDD (power), 2 GP5/OSC1/CLKIN (io), 3 GP4/OSC2 (io), 4 GP3/~{MCLR}/VPP (in), 5 GP2/T0CKI (io), 6 GP1 (io), 7 GP0 (io), 8 VSS (power)

## PIC12C509-04E/P
designator U?
8-Bit CMOS Microcontroller, 8-Pin PDIP, 4 MHz, 2.5 to 5.5V Supply Range, Extended Temperature; Note: If changing from PIC12C50X to either PIC12C50XA or PIC12CR50XA, verify oscillator characteristics in your application.; Note: Not recommended for new designs. Consider PIC12C509A instead.; Published: 11-Oct-2004; DatasheetVersion: DS40139E_1999; PackageVersion: Oct-2005; PackageReference: PDIP300-8; Publisher: Altium Limited; PackageDescription: DIP, Plastic; 8 Leads; Row Spacing 7.62 mm; Pitch 2.54 mm; Code_JEDEC: MS-001; ComponentLink1Description: Manufacturer Link; ComponentLink1URL: http://www.microchip.com; ComponentLink2Description: Datasheet; ComponentLink2URL: http://ww1.microchip.com/downloads/en/DeviceDoc/40139e.pdf; ComponentLink3Description: Packaging Specification; ComponentLink3URL: http://ww1.microchip.com/downloads/en/PackagingSpec/00049AD.pdf
footprint PDIP300-8 (DIP, Plastic; 8 Leads; Row Spacing 7.62 mm; Pitch 2.54 mm)
pins: 1 VDD (power), 2 GP5/OSC1/CLKIN (io), 3 GP4/OSC2 (io), 4 GP3/~{MCLR}/VPP (in), 5 GP2/T0CKI (io), 6 GP1 (io), 7 GP0 (io), 8 VSS (power)

## PIC12C509-04E/SM
designator U?
8-Bit CMOS Microcontroller, 8-Pin SOIC 208mil, 4 MHz, 2.5 to 5.5V Supply Range, Extended Temperature; Note: If changing from PIC12C50X to either PIC12C50XA or PIC12CR50XA, verify oscillator characteristics in your application.; Note: Not recommended for new designs. Consider PIC12C509A instead.; Published: 11-Oct-2004; LatestRevisionDate: 13-Apr-2006; LatestRevisionNote: IPC-7351 Footprint Added.; DatasheetVersion: DS40139E_1999; PackageVersion: 2003; PackageReference: SOIC208-8; Publisher: Altium Limited; PackageDescription: 8-Pin Plastic Medium Body Small Outline Package 1.27 mm Pitch; ComponentLink1Description: Manufacturer Link; ComponentLink1URL: http://www.microchip.com; ComponentLink2Description: Datasheet; ComponentLink2URL: http://ww1.microchip.com/downloads/en/DeviceDoc/40139e.pdf; ComponentLink3Description: Packaging Specification; ComponentLink3URL: http://ww1.microchip.com/downloads/en/PackagingSpec/00049AD.pdf
footprint SOIC208-8_N (SOP, 8-Leads, Body 5.2x5.2mm, Pitch 1.27mm, IPC Medium Density)
footprint SOIC208-8_L (SOP, 8-Leads, Body 5.2x5.2mm, Pitch 1.27mm, IPC High Density)
footprint SOIC208-8_M (SOP, 8-Leads, Body 5.2x5.2mm, Pitch 1.27mm, IPC Low Density)
3D model SOIC208-8 (8-Pin Plastic Medium Body Small Outline Package 1.27 mm Pitch)
pins: 1 VDD (power), 2 GP5/OSC1/CLKIN (io), 3 GP4/OSC2 (io), 4 GP3/~{MCLR}/VPP (in), 5 GP2/T0CKI (io), 6 GP1 (io), 7 GP0 (io), 8 VSS (power)

## PIC12C509-04I/P
designator U?
8-Bit CMOS Microcontroller, 8-Pin PDIP, 4 MHz, 2.5 to 5.5V Supply Range, Industrial Temperature; Note: If changing from PIC12C50X to either PIC12C50XA or PIC12CR50XA, verify oscillator characteristics in your application.; Note: Not recommended for new designs. Consider PIC12C509A instead.; Published: 11-Oct-2004; DatasheetVersion: DS40139E_1999; PackageVersion: Oct-2005; PackageReference: PDIP300-8; Publisher: Altium Limited; PackageDescription: DIP, Plastic; 8 Leads; Row Spacing 7.62 mm; Pitch 2.54 mm; Code_JEDEC: MS-001; ComponentLink1Description: Manufacturer Link; ComponentLink1URL: http://www.microchip.com; ComponentLink2Description: Datasheet; ComponentLink2URL: http://ww1.microchip.com/downloads/en/DeviceDoc/40139e.pdf; ComponentLink3Description: Packaging Specification; ComponentLink3URL: http://ww1.microchip.com/downloads/en/PackagingSpec/00049AD.pdf
footprint PDIP300-8 (DIP, Plastic; 8 Leads; Row Spacing 7.62 mm; Pitch 2.54 mm)
pins: 1 VDD (power), 2 GP5/OSC1/CLKIN (io), 3 GP4/OSC2 (io), 4 GP3/~{MCLR}/VPP (in), 5 GP2/T0CKI (io), 6 GP1 (io), 7 GP0 (io), 8 VSS (power)

## PIC12C509-04I/SM
designator U?
8-Bit CMOS Microcontroller, 8-Pin SOIC 208mil, 4 MHz, 2.5 to 5.5V Supply Range, Industrial Temperature; Note: If changing from PIC12C50X to either PIC12C50XA or PIC12CR50XA, verify oscillator characteristics in your application.; Note: Not recommended for new designs. Consider PIC12C509A instead.; Published: 11-Oct-2004; LatestRevisionDate: 13-Apr-2006; LatestRevisionNote: IPC-7351 Footprint Added.; DatasheetVersion: DS40139E_1999; PackageVersion: 2003; PackageReference: SOIC208-8; Publisher: Altium Limited; PackageDescription: 8-Pin Plastic Medium Body Small Outline Package 1.27 mm Pitch; ComponentLink1Description: Manufacturer Link; ComponentLink1URL: http://www.microchip.com; ComponentLink2Description: Datasheet; ComponentLink2URL: http://ww1.microchip.com/downloads/en/DeviceDoc/40139e.pdf; ComponentLink3Description: Packaging Specification; ComponentLink3URL: http://ww1.microchip.com/downloads/en/PackagingSpec/00049AD.pdf
footprint SOIC208-8_N (SOP, 8-Leads, Body 5.2x5.2mm, Pitch 1.27mm, IPC Medium Density)
footprint SOIC208-8_L (SOP, 8-Leads, Body 5.2x5.2mm, Pitch 1.27mm, IPC High Density)
footprint SOIC208-8_M (SOP, 8-Leads, Body 5.2x5.2mm, Pitch 1.27mm, IPC Low Density)
3D model SOIC208-8 (8-Pin Plastic Medium Body Small Outline Package 1.27 mm Pitch)
pins: 1 VDD (power), 2 GP5/OSC1/CLKIN (io), 3 GP4/OSC2 (io), 4 GP3/~{MCLR}/VPP (in), 5 GP2/T0CKI (io), 6 GP1 (io), 7 GP0 (io), 8 VSS (power)

## PIC12C509/JW
designator U?
8-Bit CMOS Microcontroller, UV Erasable, 8-Pin Windowed CERDIP, 4 MHz, 2.5 to 5.5V Supply Range, Commercial Temperature; Note: JW Devices can be programmed to any device configuration.; Note: If changing from PIC12C50X to either PIC12C50XA or PIC12CR50XA, verify oscillator characteristics in your application.; Note: Not recommended for new designs. Consider PIC12C509A instead.; Published: 11-Oct-2004; LatestRevisionDate: 04-Mar-2005; LatestRevisionNote: Stylized 3D Model Added.; DatasheetVersion: DS40139E_1999; PackageVersion: 2003; PackageReference: SideBrazed-8; Publisher: Altium Limited; PackageDescription: DIP, Ceramic, Side-Brazed, Window; 8 Leads; Row Spacing 7.62 mm; Pitch 2.54 mm; Code_JEDEC: MS-015; ComponentLink1Description: Manufacturer Link; ComponentLink1URL: http://www.microchip.com; ComponentLink2Description: Datasheet; ComponentLink2URL: http://ww1.microchip.com/downloads/en/DeviceDoc/40139e.pdf; ComponentLink3Description: Packaging Specification; ComponentLink3URL: http://ww1.microchip.com/downloads/en/PackagingSpec/00049AD.pdf
footprint SideBrazed-8 (DIP, Ceramic, Side-Brazed, Window; 8 Leads; Row Spacing 7.62 mm; Pitch 2.54 mm)
3D model SideBrazed-8 (DIP, Ceramic, Side-Brazed, Window; 8 Leads; Row Spacing 7.62 mm; Pitch 2.54 mm)
pins: 1 VDD (power), 2 GP5/OSC1/CLKIN (io), 3 GP4/OSC2 (io), 4 GP3/~{MCLR}/VPP (in), 5 GP2/T0CKI (io), 6 GP1 (io), 7 GP0 (io), 8 VSS (power)

## PIC12C509A-04/P
designator U?
8-Bit CMOS Microcontroller, 8-Pin PDIP, 4 MHz, 3.0 to 5.5V Supply Range, Commercial Temperature; Note: If changing from PIC12C50X to either PIC12C50XA or PIC12CR50XA, verify oscillator characteristics in your application.; Published: 11-Oct-2004; DatasheetVersion: DS40139E_1999; PackageVersion: Oct-2005; PackageReference: PDIP300-8; Publisher: Altium Limited; PackageDescription: DIP, Plastic; 8 Leads; Row Spacing 7.62 mm; Pitch 2.54 mm; Code_JEDEC: MS-001; ComponentLink1Description: Manufacturer Link; ComponentLink1URL: http://www.microchip.com; ComponentLink2Description: Datasheet; ComponentLink2URL: http://ww1.microchip.com/downloads/en/DeviceDoc/40139e.pdf; ComponentLink3Description: Packaging Specification; ComponentLink3URL: http://ww1.microchip.com/downloads/en/PackagingSpec/00049AD.pdf
footprint PDIP300-8 (DIP, Plastic; 8 Leads; Row Spacing 7.62 mm; Pitch 2.54 mm)
pins: 1 VDD (power), 2 GP5/OSC1/CLKIN (io), 3 GP4/OSC2 (io), 4 GP3/~{MCLR}/VPP (in), 5 GP2/T0CKI (io), 6 GP1 (io), 7 GP0 (io), 8 VSS (power)

## PIC12C509A-04/SM
designator U?
8-Bit CMOS Microcontroller, 8-Pin SOIC 208mil, 4 MHz, 3.0 to 5.5V Supply Range, Commercial Temperature; Note: If changing from PIC12C50X to either PIC12C50XA or PIC12CR50XA, verify oscillator characteristics in your application.; Published: 11-Oct-2004; LatestRevisionDate: 13-Apr-2006; LatestRevisionNote: IPC-7351 Footprint Added.; DatasheetVersion: DS40139E_1999; PackageVersion: 2003; PackageReference: SOIC208-8; Publisher: Altium Limited; PackageDescription: 8-Pin Plastic Medium Body Small Outline Package 1.27 mm Pitch; ComponentLink1Description: Manufacturer Link; ComponentLink1URL: http://www.microchip.com; ComponentLink2Description: Datasheet; ComponentLink2URL: http://ww1.microchip.com/downloads/en/DeviceDoc/40139e.pdf; ComponentLink3Description: Packaging Specification; ComponentLink3URL: http://ww1.microchip.com/downloads/en/PackagingSpec/00049AD.pdf
footprint SOIC208-8_N (SOP, 8-Leads, Body 5.2x5.2mm, Pitch 1.27mm, IPC Medium Density)
footprint SOIC208-8_L (SOP, 8-Leads, Body 5.2x5.2mm, Pitch 1.27mm, IPC High Density)
footprint SOIC208-8_M (SOP, 8-Leads, Body 5.2x5.2mm, Pitch 1.27mm, IPC Low Density)
3D model SOIC208-8 (8-Pin Plastic Medium Body Small Outline Package 1.27 mm Pitch)
pins: 1 VDD (power), 2 GP5/OSC1/CLKIN (io), 3 GP4/OSC2 (io), 4 GP3/~{MCLR}/VPP (in), 5 GP2/T0CKI (io), 6 GP1 (io), 7 GP0 (io), 8 VSS (power)

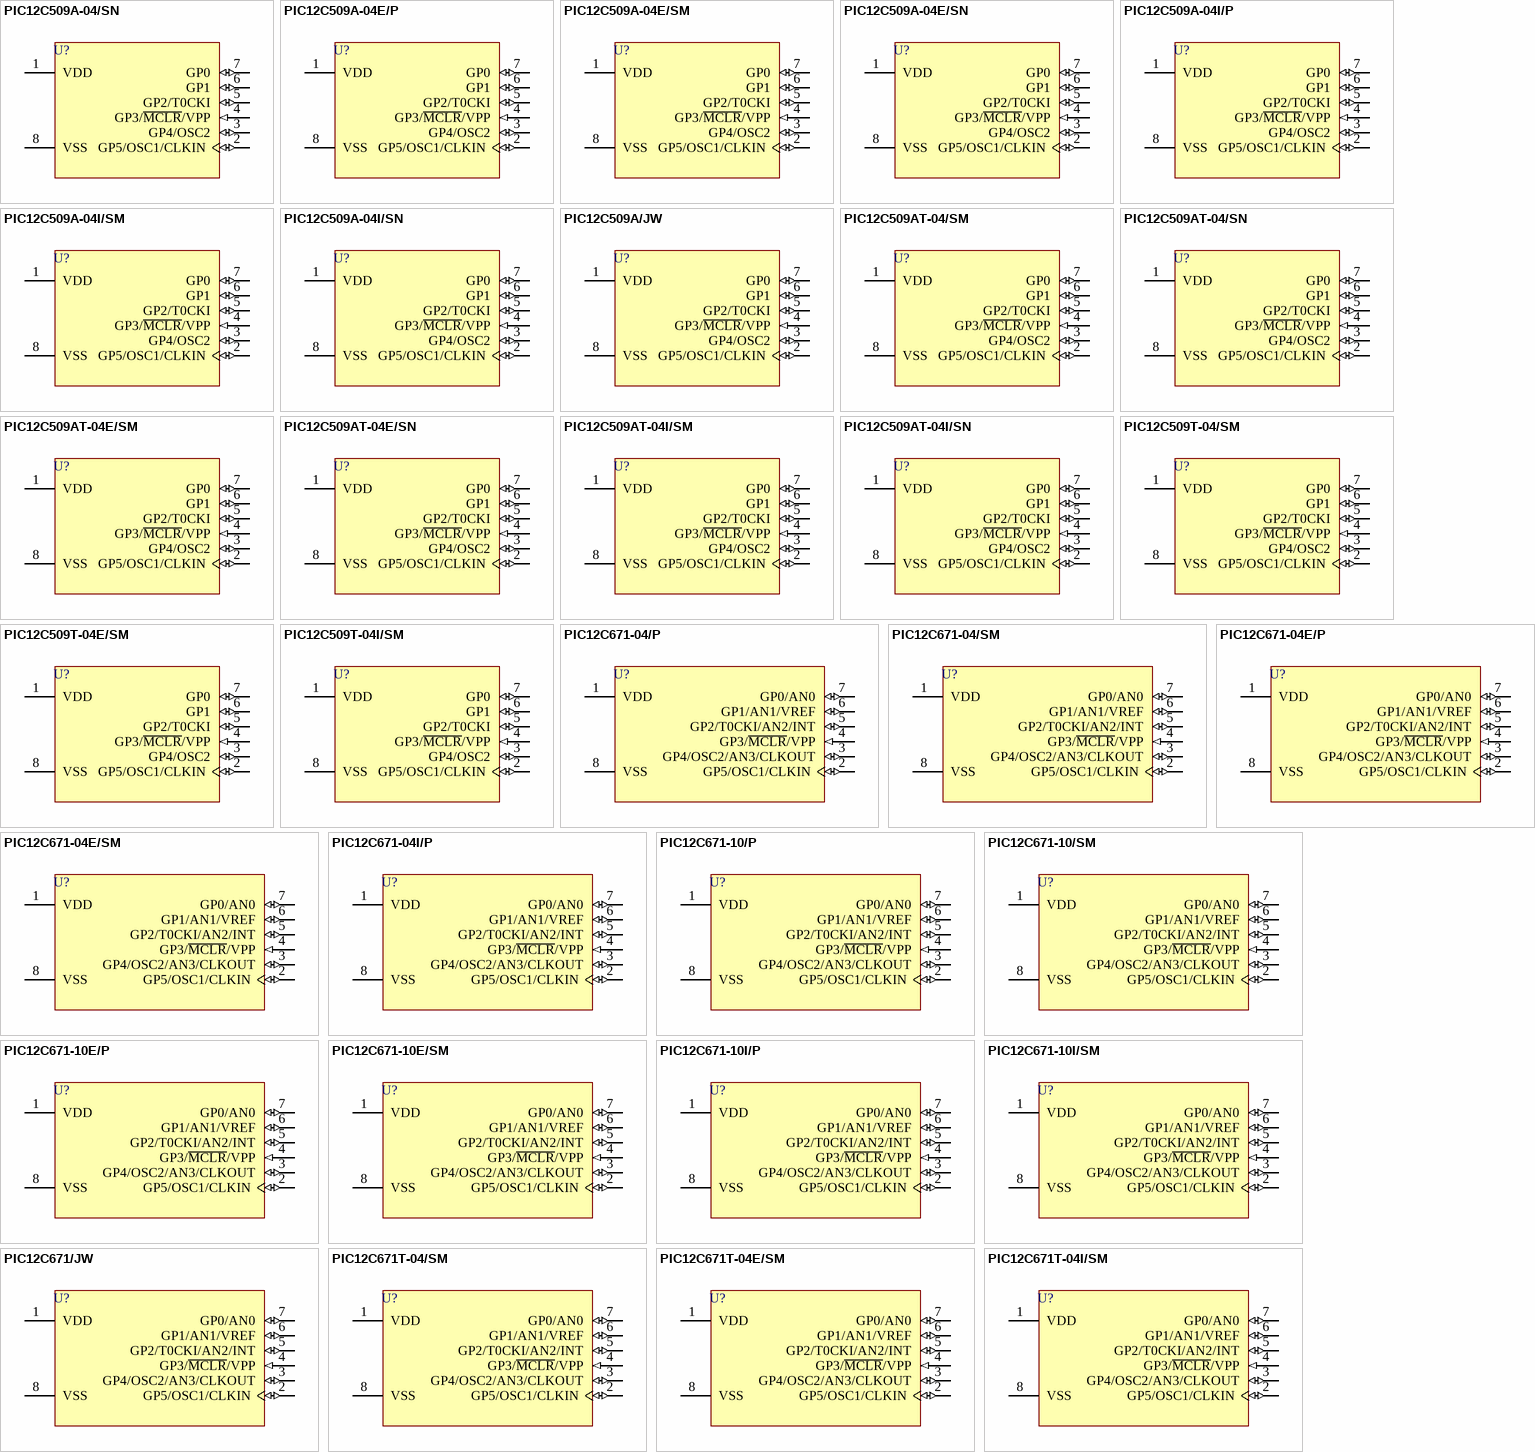
[diagram p1: symbols PIC12C509A-04/SN to PIC12C671T-04I/SM]

## PIC12C509A-04/SN
designator U?
8-Bit CMOS Microcontroller, 8-Pin SOIC 150mil, 4 MHz, 3.0 to 5.5V Supply Range, Commercial Temperature; Note: If changing from PIC12C50X to either PIC12C50XA or PIC12CR50XA, verify oscillator characteristics in your application.; Published: 11-Oct-2004; LatestRevisionDate: 13-Apr-2006; LatestRevisionNote: IPC-7351 Footprint Added.; DatasheetVersion: DS40139E_1999; PackageVersion: Oct-2005; PackageReference: SOIC150-8; Publisher: Altium Limited; PackageDescription: 8-Pin Plastic Narrow Body Small Outline Integrated Circuit 1.27 mm Pitch; Code_JEDEC: MS-012; ComponentLink1Description: Manufacturer Link; ComponentLink1URL: http://www.microchip.com; ComponentLink2Description: Datasheet; ComponentLink2URL: http://ww1.microchip.com/downloads/en/DeviceDoc/40139e.pdf; ComponentLink3Description: Packaging Specification; ComponentLink3URL: http://ww1.microchip.com/downloads/en/PackagingSpec/00049AD.pdf
footprint SOIC150-8_N (SOIC, 8-Leads, Body 4.9x3.8mm, Pitch 1.27mm, IPC Medium Density)
footprint SOIC150-8_L (SOIC, 8-Leads, Body 4.9x3.8mm, Pitch 1.27mm, IPC High Density)
footprint SOIC150-8_M (SOIC, 8-Leads, Body 4.9x3.8mm, Pitch 1.27mm, IPC Low Density)
3D model SOIC150-8 (8-Pin Plastic Narrow Body Small Outline Integrated Circuit 1.27 mm Pitch)
pins: 1 VDD (power), 2 GP5/OSC1/CLKIN (io), 3 GP4/OSC2 (io), 4 GP3/~{MCLR}/VPP (in), 5 GP2/T0CKI (io), 6 GP1 (io), 7 GP0 (io), 8 VSS (power)

## PIC12C509A-04E/P
designator U?
8-Bit CMOS Microcontroller, 8-Pin PDIP, 4 MHz, 3.0 to 5.5V Supply Range, Extended Temperature; Note: If changing from PIC12C50X to either PIC12C50XA or PIC12CR50XA, verify oscillator characteristics in your application.; Published: 11-Oct-2004; DatasheetVersion: DS40139E_1999; PackageVersion: Oct-2005; PackageReference: PDIP300-8; Publisher: Altium Limited; PackageDescription: DIP, Plastic; 8 Leads; Row Spacing 7.62 mm; Pitch 2.54 mm; Code_JEDEC: MS-001; ComponentLink1Description: Manufacturer Link; ComponentLink1URL: http://www.microchip.com; ComponentLink2Description: Datasheet; ComponentLink2URL: http://ww1.microchip.com/downloads/en/DeviceDoc/40139e.pdf; ComponentLink3Description: Packaging Specification; ComponentLink3URL: http://ww1.microchip.com/downloads/en/PackagingSpec/00049AD.pdf
footprint PDIP300-8 (DIP, Plastic; 8 Leads; Row Spacing 7.62 mm; Pitch 2.54 mm)
pins: 1 VDD (power), 2 GP5/OSC1/CLKIN (io), 3 GP4/OSC2 (io), 4 GP3/~{MCLR}/VPP (in), 5 GP2/T0CKI (io), 6 GP1 (io), 7 GP0 (io), 8 VSS (power)